# Altium schematic symbol library Connector WF Series.SchLib: 38 symbols
Pins are listed as number, name and electrical type; pins without a type are passive.

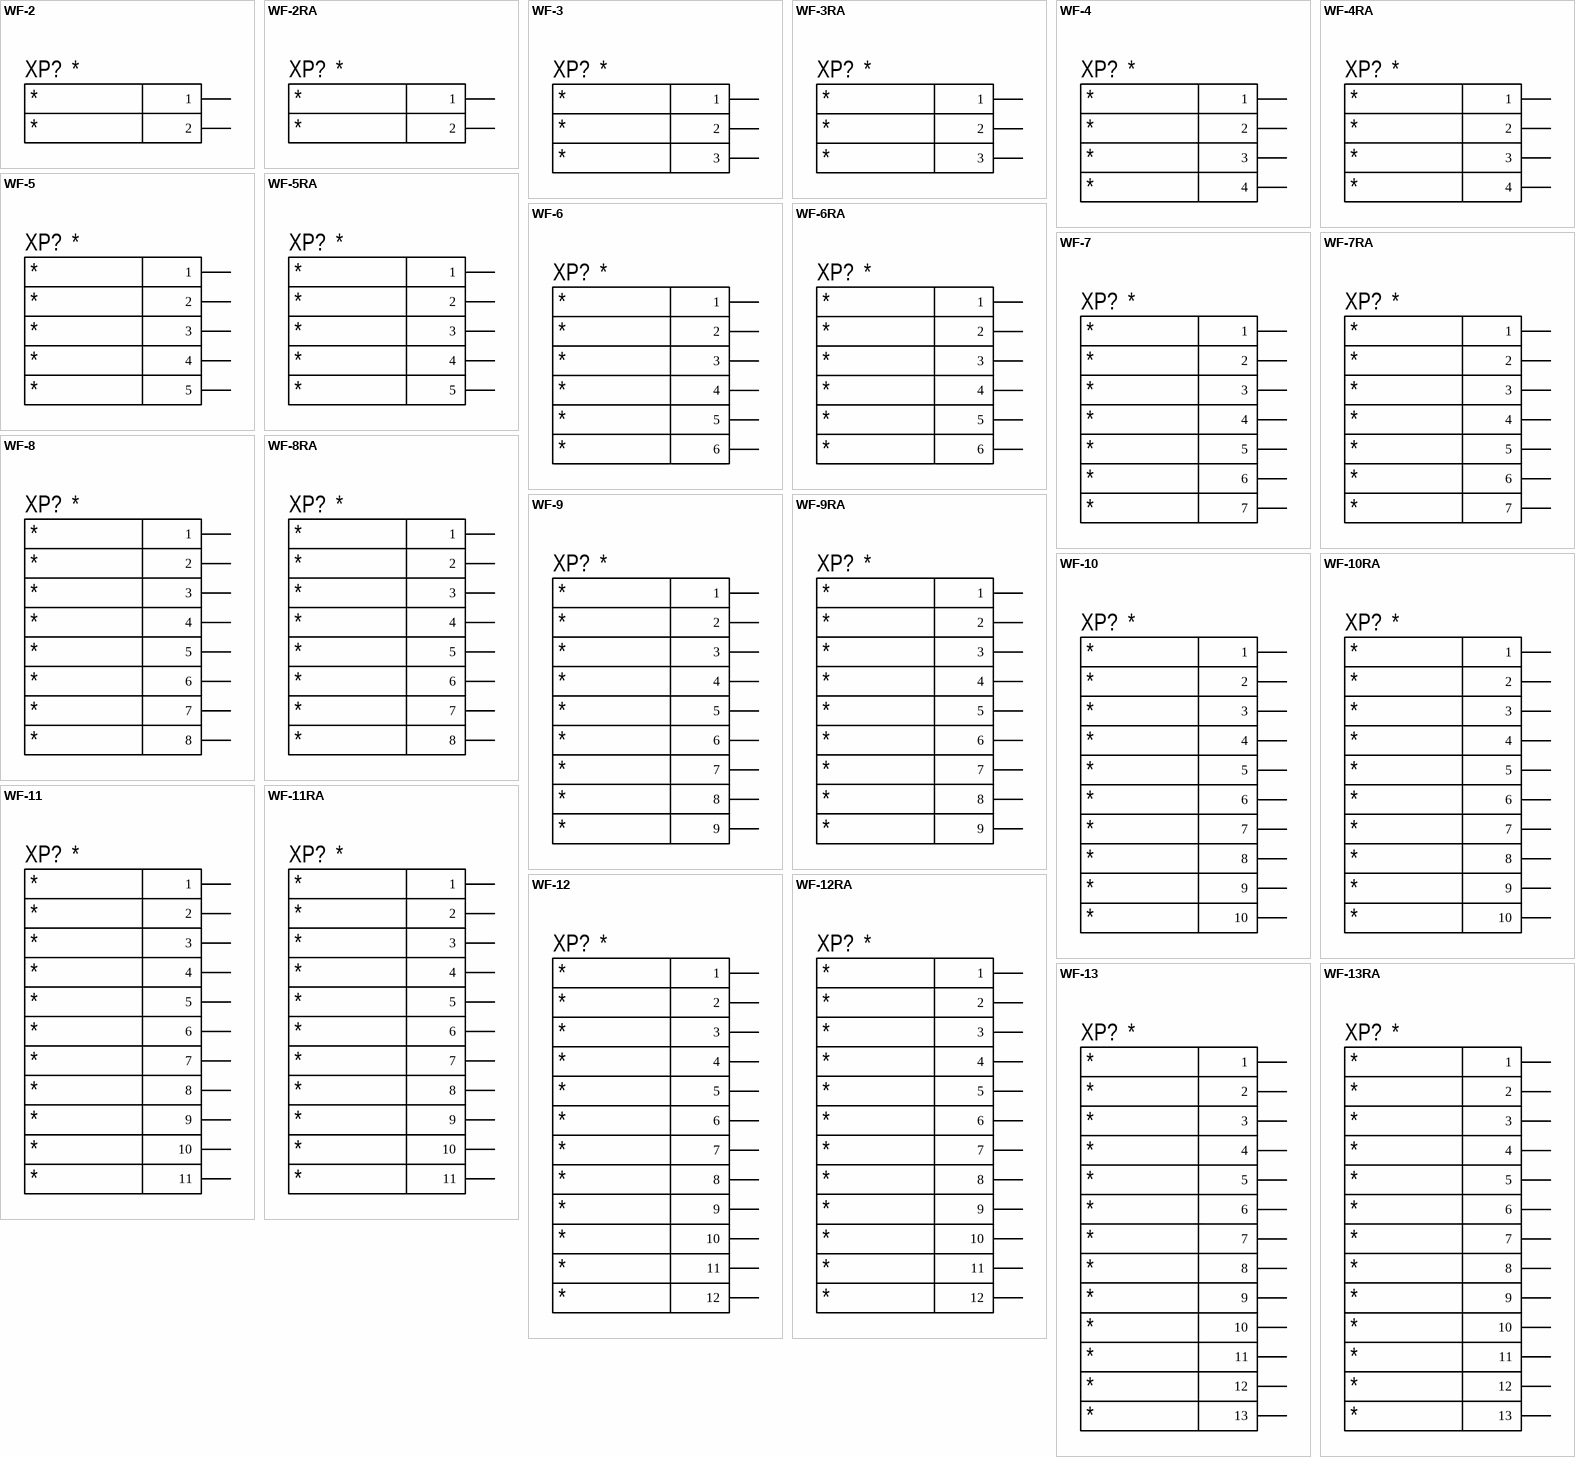
[diagram p0: symbols WF-2 to WF-13RA]

## WF-2
designator XP?, comment PCB Vertical Connector 2-Pin, Pitch 2.54mm  (value not drawn)
PCB Vertical Connector 2 Pin Pitch 2.54mm, 250V, 3A per Pin; Manufacture: Connfly; Model: DS1070-2MVV6A; ComponentLink1Description: WF (DS1070) Series Connector; ComponentLink1URL: http://www.connfly.com/userfiles/image/UpLoadFile/File/2018/2/28/DS1070.pdf; Name Connector: *; Pin 2 Name: *; Pin 1 Name: *
footprint WF-2 (PCB Vertical Connector 2-Pin)
pins: 1 "Pin 1", 2 "Pin 2"

## WF-2RA
designator XP?, comment PCB Rigth Angle Connector 2-Pin, Pitch 2.54mm  (value not drawn)
PCB Rigth Angle Connector 2-Pin, Pitch 2.54mm, 250V, 3A per Pin; Manufacture: Connfly; Model: DS1070-2MRV6A; ComponentLink1Description: WF (DS1070) Series Connector; ComponentLink1URL: http://www.connfly.com/userfiles/image/UpLoadFile/File/2018/2/28/DS1070.pdf; Name Connector: *; Pin 2 Name: *; Pin 1 Name: *
footprint WF-2RA (PCB Rigth Angle Connector 2-Pin)
pins: 1 "Pin 1", 2 "Pin 2"

## WF-3
designator XP?, comment PCB Vertical Connector 3-Pin, Pitch 2.54mm  (value not drawn)
PCB Vertical Connector 3-Pin Pitch 2.54mm, 250V, 3A per Pin; Manufacture: Connfly; Model: DS1070-3MVV6A; ComponentLink1Description: WF (DS1070) Series Connector; ComponentLink1URL: http://www.connfly.com/userfiles/image/UpLoadFile/File/2018/2/28/DS1070.pdf; Pin 3 Name: *; Name Connector: *; Pin 2 Name: *; Pin 1 Name: *
footprint WF-3 (PCB Vertical Connector 3-Pin)
pins: 1 "Pin 1", 2 "Pin 2", 3 "Pin 3"

## WF-3RA
designator XP?, comment PCB Rigth Angle Connector 3-Pin, Pitch 2.54mm  (value not drawn)
PCB Rigth Angle Connector 3-Pin, Pitch 2.54mm, 250V, 3A per Pin; Manufacture: Connfly; Model: DS1070-3MRV6A; ComponentLink1Description: WF (DS1070) Series Connector; ComponentLink1URL: http://www.connfly.com/userfiles/image/UpLoadFile/File/2018/2/28/DS1070.pdf; Pin 3 Name: *; Name Connector: *; Pin 2 Name: *; Pin 1 Name: *
footprint WF-3RA (PCB Rigth Angle Connector 3-Pin)
pins: 1 "Pin 1", 2 "Pin 2", 3 "Pin 3"

## WF-4
designator XP?, comment PCB Vertical Connector 4-Pin, Pitch 2.54mm  (value not drawn)
PCB Vertical Connector 4-Pin Pitch 2.54mm, 250V, 3A per Pin; Manufacture: Connfly; Model: DS1070-4MVV6A; ComponentLink1Description: WF (DS1070) Series Connector; ComponentLink1URL: http://www.connfly.com/userfiles/image/UpLoadFile/File/2018/2/28/DS1070.pdf; Pin 4 Name: *; Pin 3 Name: *; Name Connector: *; Pin 2 Name: *; Pin 1 Name: *
footprint WF-4 (PCB Vertical Connector 4-Pin)
pins: 1 "Pin 1", 2 "Pin 2", 3 "Pin 3", 4 "Pin 4"

## WF-4RA
designator XP?, comment PCB Rigth Angle Connector 4-Pin, Pitch 2.54mm  (value not drawn)
PCB Rigth Angle Connector 4-Pin, Pitch 2.54mm, 250V, 3A per Pin; Manufacture: Connfly; Model: DS1070-4MRV6A; ComponentLink1Description: WF (DS1070) Series Connector; ComponentLink1URL: http://www.connfly.com/userfiles/image/UpLoadFile/File/2018/2/28/DS1070.pdf; Pin 4 Name: *; Pin 3 Name: *; Name Connector: *; Pin 2 Name: *; Pin 1 Name: *
footprint WF-4RA (PCB Rigth Angle Connector 4-Pin)
pins: 1 "Pin 1", 2 "Pin 2", 3 "Pin 3", 4 "Pin 4"

## WF-5
designator XP?, comment PCB Vertical Connector 5-Pin, Pitch 2.54mm  (value not drawn)
PCB Vertical Connector 5-Pin Pitch 2.54mm, 250V, 3A per Pin; Manufacture: Connfly; Model: DS1070-5MVV6A; ComponentLink1Description: WF (DS1070) Series Connector; ComponentLink1URL: http://www.connfly.com/userfiles/image/UpLoadFile/File/2018/2/28/DS1070.pdf; Pin 5 Name: *; Pin 4 Name: *; Pin 3 Name: *; Name Connector: *; Pin 2 Name: *; Pin 1 Name: *
footprint WF-5 (PCB Vertical Connector 5-Pin)
pins: 1 "Pin 1", 2 "Pin 2", 3 "Pin 3", 4 "Pin 4", 5 "Pin 5"

## WF-5RA
designator XP?, comment PCB Rigth Angle Connector 5-Pin, Pitch 2.54mm  (value not drawn)
PCB Rigth Angle Connector 5-Pin, Pitch 2.54mm, 250V, 3A per Pin; Manufacture: Connfly; Model: DS1070-5MRV6A; ComponentLink1Description: WF (DS1070) Series Connector; ComponentLink1URL: http://www.connfly.com/userfiles/image/UpLoadFile/File/2018/2/28/DS1070.pdf; Pin 5 Name: *; Pin 4 Name: *; Pin 3 Name: *; Name Connector: *; Pin 2 Name: *; Pin 1 Name: *
footprint WF-5RA (PCB Rigth Angle Connector 5-Pin)
pins: 1 "Pin 1", 2 "Pin 2", 3 "Pin 3", 4 "Pin 4", 5 "Pin 5"

## WF-6
designator XP?, comment PCB Vertical Connector 6-Pin, Pitch 2.54mm  (value not drawn)
PCB Vertical Connector 6-Pin Pitch 2.54mm, 250V, 3A per Pin; Manufacture: Connfly; Model: DS1070-6MVV6A; ComponentLink1Description: WF (DS1070) Series Connector; ComponentLink1URL: http://www.connfly.com/userfiles/image/UpLoadFile/File/2018/2/28/DS1070.pdf; Pin 6 Name: *; Pin 5 Name: *; Pin 4 Name: *; Pin 3 Name: *; Name Connector: *; Pin 2 Name: *; Pin 1 Name: *
footprint WF-6 (PCB Vertical Connector 6-Pin)
pins: 1 "Pin 1", 2 "Pin 2", 3 "Pin 3", 4 "Pin 4", 5 "Pin 5", 6 "Pin 6"

## WF-6RA
designator XP?, comment PCB Rigth Angle Connector 6-Pin, Pitch 2.54mm  (value not drawn)
PCB Rigth Angle Connector 6-Pin, Pitch 2.54mm, 250V, 3A per Pin; Manufacture: Connfly; Model: DS1070-6MRV6A; ComponentLink1Description: WF (DS1070) Series Connector; ComponentLink1URL: http://www.connfly.com/userfiles/image/UpLoadFile/File/2018/2/28/DS1070.pdf; Pin 6 Name: *; Pin 5 Name: *; Pin 4 Name: *; Pin 3 Name: *; Name Connector: *; Pin 2 Name: *; Pin 1 Name: *
footprint WF-6RA (PCB Rigth Angle Connector 6-Pin)
pins: 1 "Pin 1", 2 "Pin 2", 3 "Pin 3", 4 "Pin 4", 5 "Pin 5", 6 "Pin 6"

## WF-7
designator XP?, comment PCB Vertical Connector 7-Pin, Pitch 2.54mm  (value not drawn)
PCB Vertical Connector 7-Pin Pitch 2.54mm, 250V, 3A per Pin; Manufacture: Connfly; Model: DS1070-7MVV6A; ComponentLink1Description: WF (DS1070) Series Connector; ComponentLink1URL: http://www.connfly.com/userfiles/image/UpLoadFile/File/2018/2/28/DS1070.pdf; Pin 7 Name: *; Pin 6 Name: *; Pin 5 Name: *; Pin 4 Name: *; Pin 3 Name: *; Name Connector: *; Pin 2 Name: *; Pin 1 Name: *
footprint WF-7 (PCB Vertical Connector 7-Pin)
pins: 1 "Pin 1", 2 "Pin 2", 3 "Pin 3", 4 "Pin 4", 5 "Pin 5", 6 "Pin 6", 7 "Pin 7"

## WF-7RA
designator XP?, comment PCB Rigth Angle Connector 7-Pin, Pitch 2.54mm  (value not drawn)
PCB Rigth Angle Connector 7-Pin, Pitch 2.54mm, 250V, 3A per Pin; Manufacture: Connfly; Model: DS1070-7MRV6A; ComponentLink1Description: WF (DS1070) Series Connector; ComponentLink1URL: http://www.connfly.com/userfiles/image/UpLoadFile/File/2018/2/28/DS1070.pdf; Pin 7 Name: *; Pin 6 Name: *; Pin 5 Name: *; Pin 4 Name: *; Pin 3 Name: *; Name Connector: *; Pin 2 Name: *; Pin 1 Name: *
footprint WF-7RA (PCB Rigth Angle Connector 7-Pin)
pins: 1 "Pin 1", 2 "Pin 2", 3 "Pin 3", 4 "Pin 4", 5 "Pin 5", 6 "Pin 6", 7 "Pin 7"

## WF-8
designator XP?, comment PCB Vertical Connector 8-Pin, Pitch 2.54mm  (value not drawn)
PCB Vertical Connector 8-Pin Pitch 2.54mm, 250V, 3A per Pin; Manufacture: Connfly; Model: DS1070-8MVV6A; ComponentLink1Description: WF (DS1070) Series Connector; ComponentLink1URL: http://www.connfly.com/userfiles/image/UpLoadFile/File/2018/2/28/DS1070.pdf; Pin 8 Name: *; Pin 7 Name: *; Pin 6 Name: *; Pin 5 Name: *; Pin 4 Name: *; Pin 3 Name: *; Name Connector: *; Pin 2 Name: *; Pin 1 Name: *
footprint WF-8 (PCB Vertical Connector 8-Pin)
pins: 1 "Pin 1", 2 "Pin 2", 3 "Pin 3", 4 "Pin 4", 5 "Pin 5", 6 "Pin 6", 7 "Pin 7", 8 "Pin 8"

## WF-8RA
designator XP?, comment PCB Rigth Angle Connector 8-Pin, Pitch 2.54mm  (value not drawn)
PCB Rigth Angle Connector 8-Pin, Pitch 2.54mm, 250V, 3A per Pin; Manufacture: Connfly; Model: DS1070-8MRV6A; ComponentLink1Description: WF (DS1070) Series Connector; ComponentLink1URL: http://www.connfly.com/userfiles/image/UpLoadFile/File/2018/2/28/DS1070.pdf; Pin 8 Name: *; Pin 7 Name: *; Pin 6 Name: *; Pin 5 Name: *; Pin 4 Name: *; Pin 3 Name: *; Name Connector: *; Pin 2 Name: *; Pin 1 Name: *
footprint WF-8RA (PCB Rigth Angle Connector 8-Pin)
pins: 1 "Pin 1", 2 "Pin 2", 3 "Pin 3", 4 "Pin 4", 5 "Pin 5", 6 "Pin 6", 7 "Pin 7", 8 "Pin 8"

## WF-9
designator XP?, comment PCB Vertical Connector 9-Pin, Pitch 2.54mm  (value not drawn)
PCB Vertical Connector 9-Pin Pitch 2.54mm, 250V, 3A per Pin; Manufacture: Connfly; Model: DS1070-9MVV6A; ComponentLink1Description: WF (DS1070) Series Connector; ComponentLink1URL: http://www.connfly.com/userfiles/image/UpLoadFile/File/2018/2/28/DS1070.pdf; Pin 9 Name: *; Pin 8 Name: *; Pin 7 Name: *; Pin 6 Name: *; Pin 5 Name: *; Pin 4 Name: *; Pin 3 Name: *; Name Connector: *; Pin 2 Name: *; Pin 1 Name: *
footprint WF-9 (PCB Vertical Connector 9-Pin)
pins: 1 "Pin 1", 2 "Pin 2", 3 "Pin 3", 4 "Pin 4", 5 "Pin 5", 6 "Pin 6", 7 "Pin 7", 8 "Pin 8", 9 "Pin 9"

## WF-9RA
designator XP?, comment PCB Rigth Angle Connector 9-Pin, Pitch 2.54mm  (value not drawn)
PCB Rigth Angle Connector 9-Pin, Pitch 2.54mm, 250V, 3A per Pin; Manufacture: Connfly; Model: DS1070-9MRV6A; ComponentLink1Description: WF (DS1070) Series Connector; ComponentLink1URL: http://www.connfly.com/userfiles/image/UpLoadFile/File/2018/2/28/DS1070.pdf; Pin 9 Name: *; Pin 8 Name: *; Pin 7 Name: *; Pin 6 Name: *; Pin 5 Name: *; Pin 4 Name: *; Pin 3 Name: *; Name Connector: *; Pin 2 Name: *; Pin 1 Name: *
footprint WF-9RA (PCB Rigth Angle Connector 9-Pin)
pins: 1 "Pin 1", 2 "Pin 2", 3 "Pin 3", 4 "Pin 4", 5 "Pin 5", 6 "Pin 6", 7 "Pin 7", 8 "Pin 8", 9 "Pin 9"

## WF-10
designator XP?, comment PCB Vertical Connector 10-Pin, Pitch 2.54mm  (value not drawn)
PCB Vertical Connector 10-Pin Pitch 2.54mm, 250V, 3A per Pin; Manufacture: Connfly; Model: DS1070-10MVV6A; ComponentLink1Description: WF (DS1070) Series Connector; ComponentLink1URL: http://www.connfly.com/userfiles/image/UpLoadFile/File/2018/2/28/DS1070.pdf; Pin 10 Name: *; Pin 9 Name: *; Pin 8 Name: *; Pin 7 Name: *; Pin 6 Name: *; Pin 5 Name: *; Pin 4 Name: *; Pin 3 Name: *; Name Connector: *; Pin 2 Name: *; Pin 1 Name: *
footprint WF-10 (PCB Vertical Connector 10-Pin)
pins: 1 "Pin 1", 2 "Pin 2", 3 "Pin 3", 4 "Pin 4", 5 "Pin 5", 6 "Pin 6", 7 "Pin 7", 8 "Pin 8", 9 "Pin 9", 10 "Pin 10"

## WF-10RA
designator XP?, comment PCB Rigth Angle Connector 10-Pin, Pitch 2.54mm  (value not drawn)
PCB Rigth Angle Connector 10-Pin, Pitch 2.54mm, 250V, 3A per Pin; Manufacture: Connfly; Model: DS1070-10MRV6A; ComponentLink1Description: WF (DS1070) Series Connector; ComponentLink1URL: http://www.connfly.com/userfiles/image/UpLoadFile/File/2018/2/28/DS1070.pdf; Pin 10 Name: *; Pin 9 Name: *; Pin 8 Name: *; Pin 7 Name: *; Pin 6 Name: *; Pin 5 Name: *; Pin 4 Name: *; Pin 3 Name: *; Name Connector: *; Pin 2 Name: *; Pin 1 Name: *
footprint WF-10RA (PCB Rigth Angle Connector 10-Pin)
pins: 1 "Pin 1", 2 "Pin 2", 3 "Pin 3", 4 "Pin 4", 5 "Pin 5", 6 "Pin 6", 7 "Pin 7", 8 "Pin 8", 9 "Pin 9", 10 "Pin 10"

## WF-11
designator XP?, comment PCB Vertical Connector 11-Pin, Pitch 2.54mm  (value not drawn)
PCB Vertical Connector 11-Pin Pitch 2.54mm, 250V, 3A per Pin; Manufacture: Connfly; Model: DS1070-11MVV6A; ComponentLink1Description: WF (DS1070) Series Connector; ComponentLink1URL: http://www.connfly.com/userfiles/image/UpLoadFile/File/2018/2/28/DS1070.pdf; Pin 11 Name: *; Pin 10 Name: *; Pin 9 Name: *; Pin 8 Name: *; Pin 7 Name: *; Pin 6 Name: *; Pin 5 Name: *; Pin 4 Name: *; Pin 3 Name: *; Name Connector: *; Pin 2 Name: *; Pin 1 Name: *
footprint WF-11 (PCB Vertical Connector 11-Pin)
pins: 1 "Pin 1", 2 "Pin 2", 3 "Pin 3", 4 "Pin 4", 5 "Pin 5", 6 "Pin 6", 7 "Pin 7", 8 "Pin 8", 9 "Pin 9", 10 "Pin 10", 11 "Pin 11"

## WF-11RA
designator XP?, comment PCB Rigth Angle Connector 11-Pin, Pitch 2.54mm  (value not drawn)
PCB Rigth Angle Connector 11-Pin, Pitch 2.54mm, 250V, 3A per Pin; Manufacture: Connfly; Model: DS1070-11MRV6A; ComponentLink1Description: WF (DS1070) Series Connector; ComponentLink1URL: http://www.connfly.com/userfiles/image/UpLoadFile/File/2018/2/28/DS1070.pdf; Pin 11 Name: *; Pin 10 Name: *; Pin 9 Name: *; Pin 8 Name: *; Pin 7 Name: *; Pin 6 Name: *; Pin 5 Name: *; Pin 4 Name: *; Pin 3 Name: *; Name Connector: *; Pin 2 Name: *; Pin 1 Name: *
footprint WF-11RA (PCB Rigth Angle Connector 11-Pin)
pins: 1 "Pin 1", 2 "Pin 2", 3 "Pin 3", 4 "Pin 4", 5 "Pin 5", 6 "Pin 6", 7 "Pin 7", 8 "Pin 8", 9 "Pin 9", 10 "Pin 10", 11 "Pin 11"

## WF-12
designator XP?, comment PCB Vertical Connector 12-Pin, Pitch 2.54mm  (value not drawn)
PCB Vertical Connector 12-Pin Pitch 2.54mm, 250V, 3A per Pin; Manufacture: Connfly; Model: DS1070-12MVV6A; ComponentLink1Description: WF (DS1070) Series Connector; ComponentLink1URL: http://www.connfly.com/userfiles/image/UpLoadFile/File/2018/2/28/DS1070.pdf; Pin 12 Name: *; Pin 11 Name: *; Pin 10 Name: *; Pin 9 Name: *; Pin 8 Name: *; Pin 7 Name: *; Pin 6 Name: *; Pin 5 Name: *; Pin 4 Name: *; Pin 3 Name: *; Name Connector: *; Pin 2 Name: *; Pin 1 Name: *
footprint WF-12 (PCB Vertical Connector 12-Pin)
pins: 1 "Pin 1", 2 "Pin 2", 3 "Pin 3", 4 "Pin 4", 5 "Pin 5", 6 "Pin 6", 7 "Pin 7", 8 "Pin 8", 9 "Pin 9", 10 "Pin 10", 11 "Pin 11", 12 "Pin 12"

## WF-12RA
designator XP?, comment PCB Rigth Angle Connector 12-Pin, Pitch 2.54mm  (value not drawn)
PCB Rigth Angle Connector 12-Pin, Pitch 2.54mm, 250V, 3A per Pin; Manufacture: Connfly; Model: DS1070-12MRV6A; ComponentLink1Description: WF (DS1070) Series Connector; ComponentLink1URL: http://www.connfly.com/userfiles/image/UpLoadFile/File/2018/2/28/DS1070.pdf; Pin 12 Name: *; Pin 11 Name: *; Pin 10 Name: *; Pin 9 Name: *; Pin 8 Name: *; Pin 7 Name: *; Pin 6 Name: *; Pin 5 Name: *; Pin 4 Name: *; Pin 3 Name: *; Name Connector: *; Pin 2 Name: *; Pin 1 Name: *
footprint WF-12RA (PCB Rigth Angle Connector 12-Pin)
pins: 1 "Pin 1", 2 "Pin 2", 3 "Pin 3", 4 "Pin 4", 5 "Pin 5", 6 "Pin 6", 7 "Pin 7", 8 "Pin 8", 9 "Pin 9", 10 "Pin 10", 11 "Pin 11", 12 "Pin 12"

## WF-13
designator XP?, comment PCB Vertical Connector 13-Pin, Pitch 2.54mm  (value not drawn)
PCB Vertical Connector 13-Pin Pitch 2.54mm, 250V, 3A per Pin; Manufacture: Connfly; Model: DS1070-13MVV6A; ComponentLink1Description: WF (DS1070) Series Connector; ComponentLink1URL: http://www.connfly.com/userfiles/image/UpLoadFile/File/2018/2/28/DS1070.pdf; Pin 13 Name: *; Pin 12 Name: *; Pin 11 Name: *; Pin 10 Name: *; Pin 9 Name: *; Pin 8 Name: *; Pin 7 Name: *; Pin 6 Name: *; Pin 5 Name: *; Pin 4 Name: *; Pin 3 Name: *; Name Connector: *; Pin 2 Name: *; Pin 1 Name: *
footprint WF-13 (PCB Vertical Connector 13-Pin)
pins: 1 "Pin 1", 2 "Pin 2", 3 "Pin 3", 4 "Pin 4", 5 "Pin 5", 6 "Pin 6", 7 "Pin 7", 8 "Pin 8", 9 "Pin 9", 10 "Pin 10", 11 "Pin 11", 12 "Pin 12", 13 "Pin 13"

## WF-13RA
designator XP?, comment PCB Rigth Angle Connector 13-Pin, Pitch 2.54mm  (value not drawn)
PCB Rigth Angle Connector 13-Pin, Pitch 2.54mm, 250V, 3A per Pin; Manufacture: Connfly; Model: DS1070-13MRV6A; ComponentLink1Description: WF (DS1070) Series Connector; ComponentLink1URL: http://www.connfly.com/userfiles/image/UpLoadFile/File/2018/2/28/DS1070.pdf; Pin 13 Name: *; Pin 12 Name: *; Pin 11 Name: *; Pin 10 Name: *; Pin 9 Name: *; Pin 8 Name: *; Pin 7 Name: *; Pin 6 Name: *; Pin 5 Name: *; Pin 4 Name: *; Pin 3 Name: *; Name Connector: *; Pin 2 Name: *; Pin 1 Name: *
footprint WF-13RA (PCB Rigth Angle Connector 13-Pin)
pins: 1 "Pin 1", 2 "Pin 2", 3 "Pin 3", 4 "Pin 4", 5 "Pin 5", 6 "Pin 6", 7 "Pin 7", 8 "Pin 8", 9 "Pin 9", 10 "Pin 10", 11 "Pin 11", 12 "Pin 12", 13 "Pin 13"

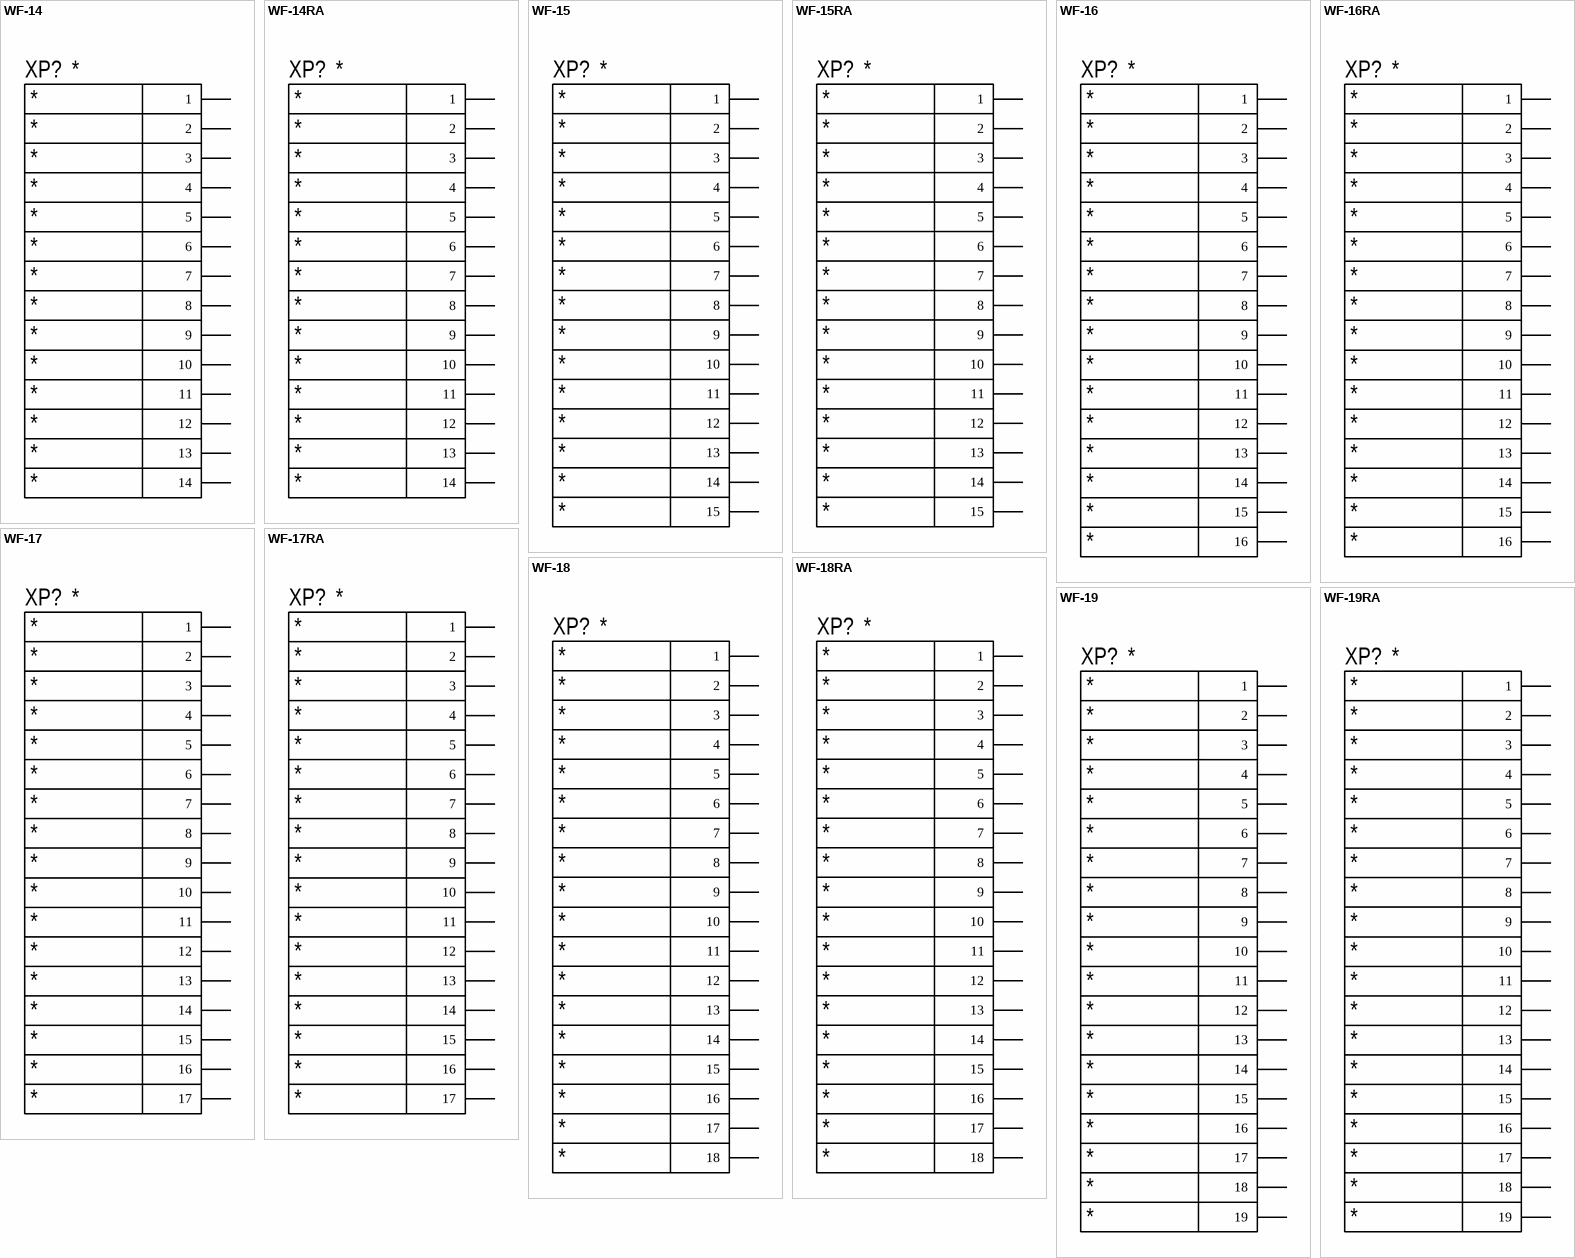
[diagram p1: symbols WF-14 to WF-19RA]

## WF-14
designator XP?, comment PCB Vertical Connector 14-Pin, Pitch 2.54mm  (value not drawn)
PCB Vertical Connector 14-Pin Pitch 2.54mm, 250V, 3A per Pin; Manufacture: Connfly; Model: DS1070-14MVV6A; ComponentLink1Description: WF (DS1070) Series Connector; ComponentLink1URL: http://www.connfly.com/userfiles/image/UpLoadFile/File/2018/2/28/DS1070.pdf; Pin 14 Name: *; Pin 13 Name: *; Pin 12 Name: *; Pin 11 Name: *; Pin 10 Name: *; Pin 9 Name: *; Pin 8 Name: *; Pin 7 Name: *; Pin 6 Name: *; Pin 5 Name: *; Pin 4 Name: *; Pin 3 Name: *; Name Connector: *; Pin 2 Name: *; Pin 1 Name: *
footprint WF-14 (PCB Vertical Connector 14-Pin)
pins: 1 "Pin 1", 2 "Pin 2", 3 "Pin 3", 4 "Pin 4", 5 "Pin 5", 6 "Pin 6", 7 "Pin 7", 8 "Pin 8", 9 "Pin 9", 10 "Pin 10", 11 "Pin 11", 12 "Pin 12", 13 "Pin 13", 14 "Pin 14"

## WF-14RA
designator XP?, comment PCB Rigth Angle Connector 14-Pin, Pitch 2.54mm  (value not drawn)
PCB Rigth Angle Connector 14-Pin, Pitch 2.54mm, 250V, 3A per Pin; Manufacture: Connfly; Model: DS1070-14MRV6A; ComponentLink1Description: WF (DS1070) Series Connector; ComponentLink1URL: http://www.connfly.com/userfiles/image/UpLoadFile/File/2018/2/28/DS1070.pdf; Pin 14 Name: *; Pin 13 Name: *; Pin 12 Name: *; Pin 11 Name: *; Pin 10 Name: *; Pin 9 Name: *; Pin 8 Name: *; Pin 7 Name: *; Pin 6 Name: *; Pin 5 Name: *; Pin 4 Name: *; Pin 3 Name: *; Name Connector: *; Pin 2 Name: *; Pin 1 Name: *
footprint WF-14RA (PCB Rigth Angle Connector 14-Pin)
pins: 1 "Pin 1", 2 "Pin 2", 3 "Pin 3", 4 "Pin 4", 5 "Pin 5", 6 "Pin 6", 7 "Pin 7", 8 "Pin 8", 9 "Pin 9", 10 "Pin 10", 11 "Pin 11", 12 "Pin 12", 13 "Pin 13", 14 "Pin 14"

## WF-15
designator XP?, comment PCB Vertical Connector 15-Pin, Pitch 2.54mm  (value not drawn)
PCB Vertical Connector 15-Pin Pitch 2.54mm, 250V, 3A per Pin; Manufacture: Connfly; Model: DS1070-15MVV6A; ComponentLink1Description: WF (DS1070) Series Connector; ComponentLink1URL: http://www.connfly.com/userfiles/image/UpLoadFile/File/2018/2/28/DS1070.pdf; Pin 15 Name: *; Pin 14 Name: *; Pin 13 Name: *; Pin 12 Name: *; Pin 11 Name: *; Pin 10 Name: *; Pin 9 Name: *; Pin 8 Name: *; Pin 7 Name: *; Pin 6 Name: *; Pin 5 Name: *; Pin 4 Name: *; Pin 3 Name: *; Name Connector: *; Pin 2 Name: *; Pin 1 Name: *
footprint WF-15 (PCB Vertical Connector 15-Pin)
pins: 1 "Pin 1", 2 "Pin 2", 3 "Pin 3", 4 "Pin 4", 5 "Pin 5", 6 "Pin 6", 7 "Pin 7", 8 "Pin 8", 9 "Pin 9", 10 "Pin 10", 11 "Pin 11", 12 "Pin 12", 13 "Pin 13", 14 "Pin 14", 15 "Pin 15"

## WF-15RA
designator XP?, comment PCB Rigth Angle Connector 15-Pin, Pitch 2.54mm  (value not drawn)
PCB Rigth Angle Connector 15-Pin, Pitch 2.54mm, 250V, 3A per Pin; Manufacture: Connfly; Model: DS1070-15MRV6A; ComponentLink1Description: WF (DS1070) Series Connector; ComponentLink1URL: http://www.connfly.com/userfiles/image/UpLoadFile/File/2018/2/28/DS1070.pdf; Pin 15 Name: *; Pin 14 Name: *; Pin 13 Name: *; Pin 12 Name: *; Pin 11 Name: *; Pin 10 Name: *; Pin 9 Name: *; Pin 8 Name: *; Pin 7 Name: *; Pin 6 Name: *; Pin 5 Name: *; Pin 4 Name: *; Pin 3 Name: *; Name Connector: *; Pin 2 Name: *; Pin 1 Name: *
footprint WF-15RA (PCB Rigth Angle Connector 15-Pin)
pins: 1 "Pin 1", 2 "Pin 2", 3 "Pin 3", 4 "Pin 4", 5 "Pin 5", 6 "Pin 6", 7 "Pin 7", 8 "Pin 8", 9 "Pin 9", 10 "Pin 10", 11 "Pin 11", 12 "Pin 12", 13 "Pin 13", 14 "Pin 14", 15 "Pin 15"

## WF-16
designator XP?, comment PCB Vertical Connector 16-Pin, Pitch 2.54mm  (value not drawn)
PCB Vertical Connector 16-Pin Pitch 2.54mm, 250V, 3A per Pin; Manufacture: Connfly; Model: DS1070-16MVV6A; ComponentLink1Description: WF (DS1070) Series Connector; ComponentLink1URL: http://www.connfly.com/userfiles/image/UpLoadFile/File/2018/2/28/DS1070.pdf; Pin 16 Name: *; Pin 15 Name: *; Pin 14 Name: *; Pin 13 Name: *; Pin 12 Name: *; Pin 11 Name: *; Pin 10 Name: *; Pin 9 Name: *; Pin 8 Name: *; Pin 7 Name: *; Pin 6 Name: *; Pin 5 Name: *; Pin 4 Name: *; Pin 3 Name: *; Name Connector: *; Pin 2 Name: *; Pin 1 Name: *
footprint WF-16 (PCB Vertical Connector 16-Pin)
pins: 1 "Pin 1", 2 "Pin 2", 3 "Pin 3", 4 "Pin 4", 5 "Pin 5", 6 "Pin 6", 7 "Pin 7", 8 "Pin 8", 9 "Pin 9", 10 "Pin 10", 11 "Pin 11", 12 "Pin 12", 13 "Pin 13", 14 "Pin 14", 15 "Pin 15", 16 "Pin 16"

## WF-16RA
designator XP?, comment PCB Rigth Angle Connector 16-Pin, Pitch 2.54mm  (value not drawn)
PCB Rigth Angle Connector 16-Pin, Pitch 2.54mm, 250V, 3A per Pin; Manufacture: Connfly; Model: DS1070-16MRV6A; ComponentLink1Description: WF (DS1070) Series Connector; ComponentLink1URL: http://www.connfly.com/userfiles/image/UpLoadFile/File/2018/2/28/DS1070.pdf; Pin 16 Name: *; Pin 15 Name: *; Pin 14 Name: *; Pin 13 Name: *; Pin 12 Name: *; Pin 11 Name: *; Pin 10 Name: *; Pin 9 Name: *; Pin 8 Name: *; Pin 7 Name: *; Pin 6 Name: *; Pin 5 Name: *; Pin 4 Name: *; Pin 3 Name: *; Name Connector: *; Pin 2 Name: *; Pin 1 Name: *
footprint WF-16RA (PCB Rigth Angle Connector 16-Pin)
pins: 1 "Pin 1", 2 "Pin 2", 3 "Pin 3", 4 "Pin 4", 5 "Pin 5", 6 "Pin 6", 7 "Pin 7", 8 "Pin 8", 9 "Pin 9", 10 "Pin 10", 11 "Pin 11", 12 "Pin 12", 13 "Pin 13", 14 "Pin 14", 15 "Pin 15", 16 "Pin 16"

## WF-17
designator XP?, comment PCB Vertical Connector 17-Pin, Pitch 2.54mm  (value not drawn)
PCB Vertical Connector 17-Pin Pitch 2.54mm, 250V, 3A per Pin; Manufacture: Connfly; Model: DS1070-17MVV6A; ComponentLink1Description: WF (DS1070) Series Connector; ComponentLink1URL: http://www.connfly.com/userfiles/image/UpLoadFile/File/2018/2/28/DS1070.pdf; Pin 17 Name: *; Pin 16 Name: *; Pin 15 Name: *; Pin 14 Name: *; Pin 13 Name: *; Pin 12 Name: *; Pin 11 Name: *; Pin 10 Name: *; Pin 9 Name: *; Pin 8 Name: *; Pin 7 Name: *; Pin 6 Name: *; Pin 5 Name: *; Pin 4 Name: *; Pin 3 Name: *; Name Connector: *; Pin 2 Name: *; Pin 1 Name: *
footprint WF-17 (PCB Vertical Connector 17-Pin)
pins: 1 "Pin 1", 2 "Pin 2", 3 "Pin 3", 4 "Pin 4", 5 "Pin 5", 6 "Pin 6", 7 "Pin 7", 8 "Pin 8", 9 "Pin 9", 10 "Pin 10", 11 "Pin 11", 12 "Pin 12", 13 "Pin 13", 14 "Pin 14", 15 "Pin 15", 16 "Pin 16", 17 "Pin 17"

## WF-17RA
designator XP?, comment PCB Rigth Angle Connector 17-Pin, Pitch 2.54mm  (value not drawn)
PCB Rigth Angle Connector 17-Pin, Pitch 2.54mm, 250V, 3A per Pin; Manufacture: Connfly; Model: DS1070-17MRV6A; ComponentLink1Description: WF (DS1070) Series Connector; ComponentLink1URL: http://www.connfly.com/userfiles/image/UpLoadFile/File/2018/2/28/DS1070.pdf; Pin 17 Name: *; Pin 16 Name: *; Pin 15 Name: *; Pin 14 Name: *; Pin 13 Name: *; Pin 12 Name: *; Pin 11 Name: *; Pin 10 Name: *; Pin 9 Name: *; Pin 8 Name: *; Pin 7 Name: *; Pin 6 Name: *; Pin 5 Name: *; Pin 4 Name: *; Pin 3 Name: *; Name Connector: *; Pin 2 Name: *; Pin 1 Name: *
footprint WF-17RA (PCB Rigth Angle Connector 17-Pin)
pins: 1 "Pin 1", 2 "Pin 2", 3 "Pin 3", 4 "Pin 4", 5 "Pin 5", 6 "Pin 6", 7 "Pin 7", 8 "Pin 8", 9 "Pin 9", 10 "Pin 10", 11 "Pin 11", 12 "Pin 12", 13 "Pin 13", 14 "Pin 14", 15 "Pin 15", 16 "Pin 16", 17 "Pin 17"

## WF-18
designator XP?, comment PCB Vertical Connector 18-Pin, Pitch 2.54mm  (value not drawn)
PCB Vertical Connector 18-Pin Pitch 2.54mm, 250V, 3A per Pin; Manufacture: Connfly; Model: DS1070-18MVV6A; ComponentLink1Description: WF (DS1070) Series Connector; ComponentLink1URL: http://www.connfly.com/userfiles/image/UpLoadFile/File/2018/2/28/DS1070.pdf; Pin 18 Name: *; Pin 17 Name: *; Pin 16 Name: *; Pin 15 Name: *; Pin 14 Name: *; Pin 13 Name: *; Pin 12 Name: *; Pin 11 Name: *; Pin 10 Name: *; Pin 9 Name: *; Pin 8 Name: *; Pin 7 Name: *; Pin 6 Name: *; Pin 5 Name: *; Pin 4 Name: *; Pin 3 Name: *; Name Connector: *; Pin 2 Name: *; Pin 1 Name: *
footprint WF-18 (PCB Vertical Connector 18-Pin)
pins: 1 "Pin 1", 2 "Pin 2", 3 "Pin 3", 4 "Pin 4", 5 "Pin 5", 6 "Pin 6", 7 "Pin 7", 8 "Pin 8", 9 "Pin 9", 10 "Pin 10", 11 "Pin 11", 12 "Pin 12", 13 "Pin 13", 14 "Pin 14", 15 "Pin 15", 16 "Pin 16", 17 "Pin 17", 18 "Pin 18"

## WF-18RA
designator XP?, comment PCB Rigth Angle Connector 18-Pin, Pitch 2.54mm  (value not drawn)
PCB Rigth Angle Connector 18-Pin, Pitch 2.54mm, 250V, 3A per Pin; Manufacture: Connfly; Model: DS1070-18MRV6A; ComponentLink1Description: WF (DS1070) Series Connector; ComponentLink1URL: http://www.connfly.com/userfiles/image/UpLoadFile/File/2018/2/28/DS1070.pdf; Pin 18 Name: *; Pin 17 Name: *; Pin 16 Name: *; Pin 15 Name: *; Pin 14 Name: *; Pin 13 Name: *; Pin 12 Name: *; Pin 11 Name: *; Pin 10 Name: *; Pin 9 Name: *; Pin 8 Name: *; Pin 7 Name: *; Pin 6 Name: *; Pin 5 Name: *; Pin 4 Name: *; Pin 3 Name: *; Name Connector: *; Pin 2 Name: *; Pin 1 Name: *
footprint WF-18RA (PCB Rigth Angle Connector 18-Pin)
pins: 1 "Pin 1", 2 "Pin 2", 3 "Pin 3", 4 "Pin 4", 5 "Pin 5", 6 "Pin 6", 7 "Pin 7", 8 "Pin 8", 9 "Pin 9", 10 "Pin 10", 11 "Pin 11", 12 "Pin 12", 13 "Pin 13", 14 "Pin 14", 15 "Pin 15", 16 "Pin 16", 17 "Pin 17", 18 "Pin 18"

## WF-19
designator XP?, comment PCB Vertical Connector 19-Pin, Pitch 2.54mm  (value not drawn)
PCB Vertical Connector 19-Pin Pitch 2.54mm, 250V, 3A per Pin; Manufacture: Connfly; Model: DS1070-19MVV6A; ComponentLink1Description: WF (DS1070) Series Connector; ComponentLink1URL: http://www.connfly.com/userfiles/image/UpLoadFile/File/2018/2/28/DS1070.pdf; Pin 19 Name: *; Pin 18 Name: *; Pin 17 Name: *; Pin 16 Name: *; Pin 15 Name: *; Pin 14 Name: *; Pin 13 Name: *; Pin 12 Name: *; Pin 11 Name: *; Pin 10 Name: *; Pin 9 Name: *; Pin 8 Name: *; Pin 7 Name: *; Pin 6 Name: *; Pin 5 Name: *; Pin 4 Name: *; Pin 3 Name: *; Name Connector: *; Pin 2 Name: *; Pin 1 Name: *
footprint WF-19 (PCB Vertical Connector 19-Pin)
pins: 1 "Pin 1", 2 "Pin 2", 3 "Pin 3", 4 "Pin 4", 5 "Pin 5", 6 "Pin 6", 7 "Pin 7", 8 "Pin 8", 9 "Pin 9", 10 "Pin 10", 11 "Pin 11", 12 "Pin 12", 13 "Pin 13", 14 "Pin 14", 15 "Pin 15", 16 "Pin 16", 17 "Pin 17", 18 "Pin 18", 19 "Pin 19"

## WF-19RA
designator XP?, comment PCB Rigth Angle Connector 19-Pin, Pitch 2.54mm  (value not drawn)
PCB Rigth Angle Connector 19-Pin, Pitch 2.54mm, 250V, 3A per Pin; Manufacture: Connfly; Model: DS1070-19MRV6A; ComponentLink1Description: WF (DS1070) Series Connector; ComponentLink1URL: http://www.connfly.com/userfiles/image/UpLoadFile/File/2018/2/28/DS1070.pdf; Pin 19 Name: *; Pin 18 Name: *; Pin 17 Name: *; Pin 16 Name: *; Pin 15 Name: *; Pin 14 Name: *; Pin 13 Name: *; Pin 12 Name: *; Pin 11 Name: *; Pin 10 Name: *; Pin 9 Name: *; Pin 8 Name: *; Pin 7 Name: *; Pin 6 Name: *; Pin 5 Name: *; Pin 4 Name: *; Pin 3 Name: *; Name Connector: *; Pin 2 Name: *; Pin 1 Name: *
footprint WF-19RA (PCB Rigth Angle Connector 19-Pin)
pins: 1 "Pin 1", 2 "Pin 2", 3 "Pin 3", 4 "Pin 4", 5 "Pin 5", 6 "Pin 6", 7 "Pin 7", 8 "Pin 8", 9 "Pin 9", 10 "Pin 10", 11 "Pin 11", 12 "Pin 12", 13 "Pin 13", 14 "Pin 14", 15 "Pin 15", 16 "Pin 16", 17 "Pin 17", 18 "Pin 18", 19 "Pin 19"

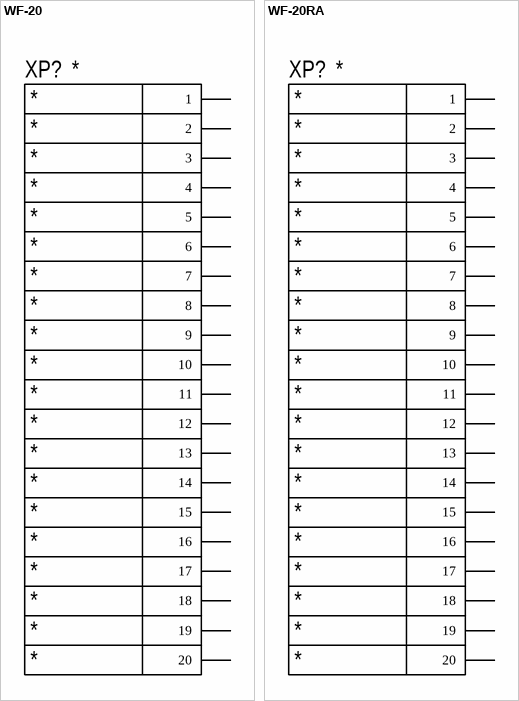
[diagram p2: symbols WF-20 to WF-20RA]

## WF-20
designator XP?, comment PCB Vertical Connector 20-Pin, Pitch 2.54mm  (value not drawn)
PCB Vertical Connector 20-Pin Pitch 2.54mm, 250V, 3A per Pin; Manufacture: Connfly; Model: DS1070-20MVV6A; ComponentLink1Description: WF (DS1070) Series Connector; ComponentLink1URL: http://www.connfly.com/userfiles/image/UpLoadFile/File/2018/2/28/DS1070.pdf; Pin 20 Name: *; Pin 19 Name: *; Pin 18 Name: *; Pin 17 Name: *; Pin 16 Name: *; Pin 15 Name: *; Pin 14 Name: *; Pin 13 Name: *; Pin 12 Name: *; Pin 11 Name: *; Pin 10 Name: *; Pin 9 Name: *; Pin 8 Name: *; Pin 7 Name: *; Pin 6 Name: *; Pin 5 Name: *; Pin 4 Name: *; Pin 3 Name: *; Name Connector: *; Pin 2 Name: *; Pin 1 Name: *
footprint WF-20 (PCB Vertical Connector 20-Pin)
pins: 1 "Pin 1", 2 "Pin 2", 3 "Pin 3", 4 "Pin 4", 5 "Pin 5", 6 "Pin 6", 7 "Pin 7", 8 "Pin 8", 9 "Pin 9", 10 "Pin 10", 11 "Pin 11", 12 "Pin 12", 13 "Pin 13", 14 "Pin 14", 15 "Pin 15", 16 "Pin 16", 17 "Pin 17", 18 "Pin 18", 19 "Pin 19", 20 "Pin 20"

## WF-20RA
designator XP?, comment PCB Rigth Angle Connector 20-Pin, Pitch 2.54mm  (value not drawn)
PCB Rigth Angle Connector 20-Pin, Pitch 2.54mm, 250V, 3A per Pin; Manufacture: Connfly; Model: DS1070-20MRV6A; ComponentLink1Description: WF (DS1070) Series Connector; ComponentLink1URL: http://www.connfly.com/userfiles/image/UpLoadFile/File/2018/2/28/DS1070.pdf; Pin 20 Name: *; Pin 19 Name: *; Pin 18 Name: *; Pin 17 Name: *; Pin 16 Name: *; Pin 15 Name: *; Pin 14 Name: *; Pin 13 Name: *; Pin 12 Name: *; Pin 11 Name: *; Pin 10 Name: *; Pin 9 Name: *; Pin 8 Name: *; Pin 7 Name: *; Pin 6 Name: *; Pin 5 Name: *; Pin 4 Name: *; Pin 3 Name: *; Name Connector: *; Pin 2 Name: *; Pin 1 Name: *
footprint WF-20RA (PCB Rigth Angle Connector 20-Pin)
pins: 1 "Pin 1", 2 "Pin 2", 3 "Pin 3", 4 "Pin 4", 5 "Pin 5", 6 "Pin 6", 7 "Pin 7", 8 "Pin 8", 9 "Pin 9", 10 "Pin 10", 11 "Pin 11", 12 "Pin 12", 13 "Pin 13", 14 "Pin 14", 15 "Pin 15", 16 "Pin 16", 17 "Pin 17", 18 "Pin 18", 19 "Pin 19", 20 "Pin 20"